# EAGLE library part LM74810QDRRRQ1 (library hot-wand)
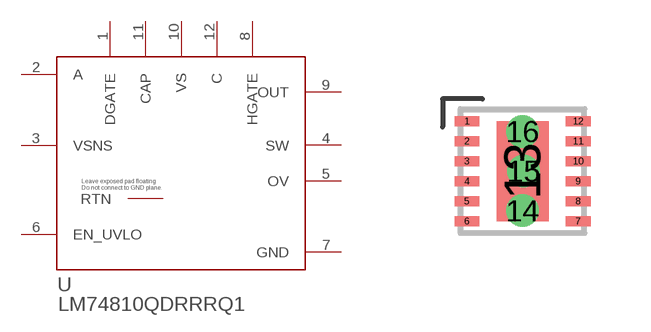
[diagram p15: symbol with the pads of DRR0012E-MFG; footprint DRR0012E-MFG]

Designator prefix U

## LM74810QDRRRQ1 (COPYRIGHT: Copyright (C) 2026 Ultra Librarian. All rights reserved.; DATASHEET: https://www.ti.com/lit/gpn/lm7481-q1; DESCRIPTION: Automotive ideal diode controller with active rectification driving B2B NFETs 12-WSON -40 to 125; MANUFACTURER_NAME: Texas Instruments; MANUFACTURER_PART_NUMBER: LM74810QDRRRQ1; REFDES: RefDes; TYPE: TYPE)  [DRR0012E-MFG]
1  DGATE  out
2  A  pas
3  VSNS  pas
4  SW  pas
5  OV  pas
6  EN_UVLO  pas
7  GND  pwr
8  HGATE  out
9  OUT  pas
10  VS  pwr
11  CAP  pas
12  C  pas
13  RTN  pas

## Footprint DRR0012E-MFG (pad centres in mm)
smd 0.62 x 0.25: 1 -1.39,1.25; 2 -1.39,0.75; 3 -1.39,0.25; 4 -1.39,-0.25; 5 -1.39,-0.75; 6 -1.39,-1.25; 7 1.39,-1.25; 8 1.39,-0.75; 9 1.39,-0.25; 10 1.39,0.25; 11 1.39,0.75; 12 1.39,1.25
smd 1.3 x 2.5: 13 0,0
drill 0.3: 14 0,-0.991; 15 0.025,0; 16 0,0.991